# Altium integrated library con-thomas-betts.IntLib: 49 symbols (part 2 of 2)

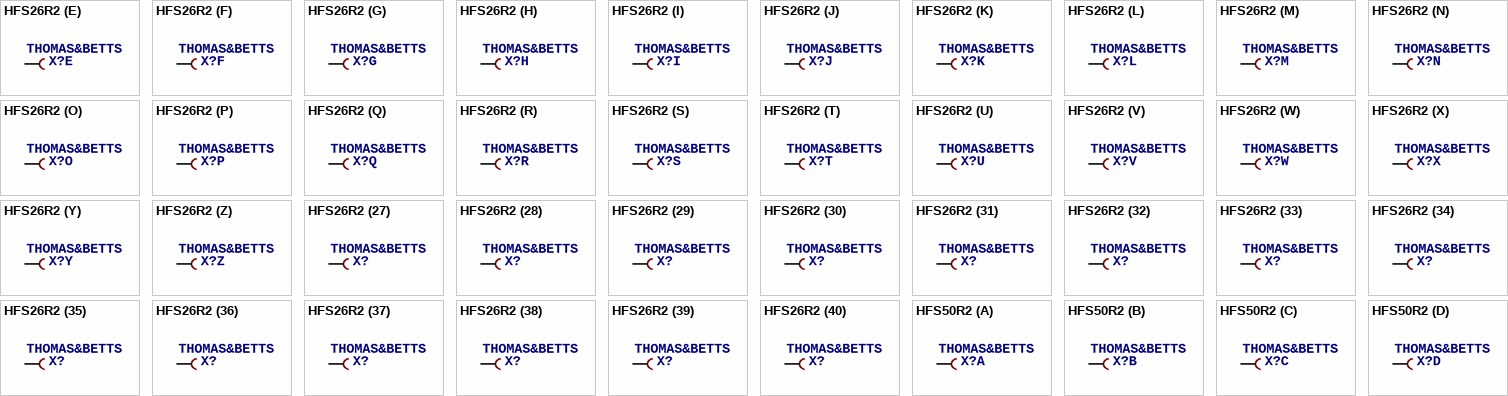
[diagram p23: symbols HFS26R2 to HFS50R2]

## HFS26R2
designator X?, comment THOMAS&BETTS
OC_FARNELL: unknown; OC_NEWARK: unknown
footprint HFS26R
part A pins: 1-1 F
part B pins: 1-2 F
part C pins: 1-3 F
part D pins: 1-4 F
part E pins: 1-5 F
part F pins: 1-6 F
part G pins: 1-7 F
part H pins: 1-8 F
part I pins: 1-9 F
part J pins: 1-10 F
part K pins: 1-11 F
part L pins: 1-12 F
part M pins: 1-13 F
part N pins: 1-14 F
part O pins: 1-15 F
part P pins: 1-16 F
part Q pins: 1-17 F
part R pins: 1-18 F
part S pins: 1-19 F
part T pins: 1-20 F
part U pins: 1-21 F
part V pins: 1-22 F
part W pins: 1-23 F
part X pins: 1-24 F
part Y pins: 1-25 F
part Z pins: 1-26 F
part 27 pins: 2-1 F
part 28 pins: 2-2 F
part 29 pins: 2-3 F
part 30 pins: 2-4 F
part 31 pins: 2-5 F
part 32 pins: 2-6 F
part 33 pins: 2-7 F
part 34 pins: 2-8 F
part 35 pins: 2-9 F
part 36 pins: 2-10 F
part 37 pins: 2-11 F
part 38 pins: 2-12 F
part 39 pins: 2-13 F
part 40 pins: 2-14 F
part 41 pins: 2-15 F
part 42 pins: 2-16 F
part 43 pins: 2-17 F
part 44 pins: 2-18 F
part 45 pins: 2-19 F
part 46 pins: 2-20 F
part 47 pins: 2-21 F
part 48 pins: 2-22 F
part 49 pins: 2-23 F
part 50 pins: 2-24 F
part 51 pins: 2-25 F
part 52 pins: 2-26 F

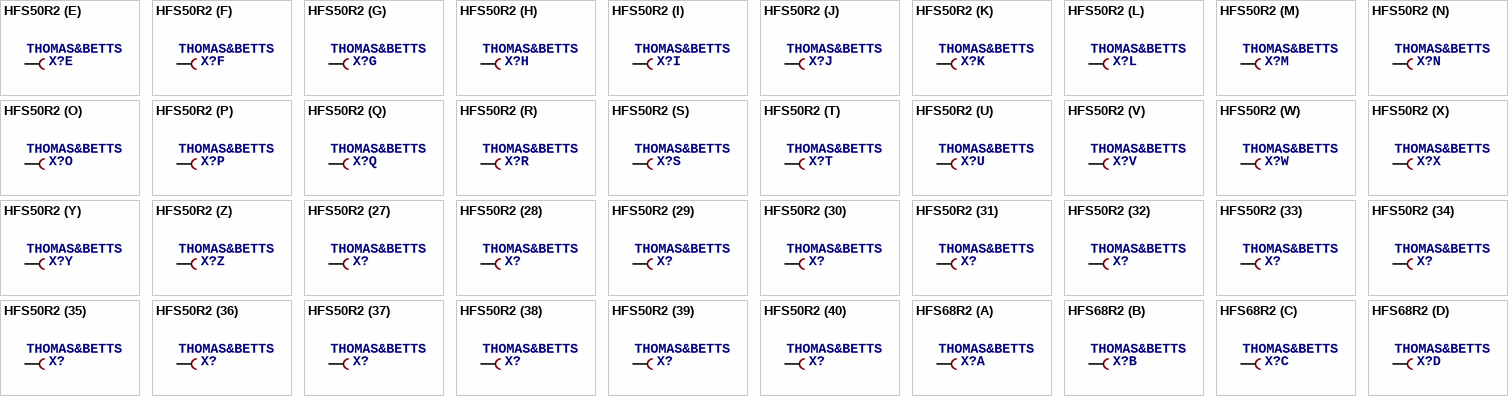
[diagram p24: symbols HFS50R2 to HFS68R2]

## HFS50R2
designator X?, comment THOMAS&BETTS
OC_FARNELL: unknown; OC_NEWARK: unknown
footprint HFS50R
part A pins: 1-1 F
part B pins: 1-2 F
part C pins: 1-3 F
part D pins: 1-4 F
part E pins: 1-5 F
part F pins: 1-6 F
part G pins: 1-7 F
part H pins: 1-8 F
part I pins: 1-9 F
part J pins: 1-10 F
part K pins: 1-11 F
part L pins: 1-12 F
part M pins: 1-13 F
part N pins: 1-14 F
part O pins: 1-15 F
part P pins: 1-16 F
part Q pins: 1-17 F
part R pins: 1-18 F
part S pins: 1-19 F
part T pins: 1-20 F
part U pins: 1-21 F
part V pins: 1-22 F
part W pins: 1-23 F
part X pins: 1-24 F
part Y pins: 1-25 F
part Z pins: 1-26 F
part 27 pins: 1-27 F
part 28 pins: 1-28 F
part 29 pins: 1-29 F
part 30 pins: 1-30 F
part 31 pins: 1-31 F
part 32 pins: 1-32 F
part 33 pins: 1-33 F
part 34 pins: 1-34 F
part 35 pins: 1-35 F
part 36 pins: 1-36 F
part 37 pins: 1-37 F
part 38 pins: 1-38 F
part 39 pins: 1-39 F
part 40 pins: 1-40 F
part 41 pins: 1-41 F
part 42 pins: 1-42 F
part 43 pins: 1-43 F
part 44 pins: 1-44 F
part 45 pins: 1-45 F
part 46 pins: 1-46 F
part 47 pins: 1-47 F
part 48 pins: 1-48 F
part 49 pins: 1-49 F
part 50 pins: 1-50 F
part 51 pins: 2-1 F
part 52 pins: 2-2 F
part 53 pins: 2-3 F
part 54 pins: 2-4 F
part 55 pins: 2-5 F
part 56 pins: 2-6 F
part 57 pins: 2-7 F
part 58 pins: 2-8 F
part 59 pins: 2-9 F
part 60 pins: 2-10 F
part 61 pins: 2-11 F
part 62 pins: 2-12 F
part 63 pins: 2-13 F
part 64 pins: 2-14 F
part 65 pins: 2-15 F
part 66 pins: 2-16 F
part 67 pins: 2-17 F
part 68 pins: 2-18 F
part 69 pins: 2-19 F
part 70 pins: 2-20 F
part 71 pins: 2-21 F
part 72 pins: 2-22 F
part 73 pins: 2-23 F
part 74 pins: 2-24 F
part 75 pins: 2-25 F
part 76 pins: 2-26 F
part 77 pins: 2-27 F
part 78 pins: 2-28 F
part 79 pins: 2-29 F
part 80 pins: 2-30 F
part 81 pins: 2-31 F
part 82 pins: 2-32 F
part 83 pins: 2-33 F
part 84 pins: 2-34 F
part 85 pins: 2-35 F
part 86 pins: 2-36 F
part 87 pins: 2-37 F
part 88 pins: 2-38 F
part 89 pins: 2-39 F
part 90 pins: 2-40 F
part 91 pins: 2-41 F
part 92 pins: 2-42 F
part 93 pins: 2-43 F
part 94 pins: 2-44 F
part 95 pins: 2-45 F
part 96 pins: 2-46 F
part 97 pins: 2-47 F
part 98 pins: 2-48 F
part 99 pins: 2-49 F
part 100 pins: 2-50 F

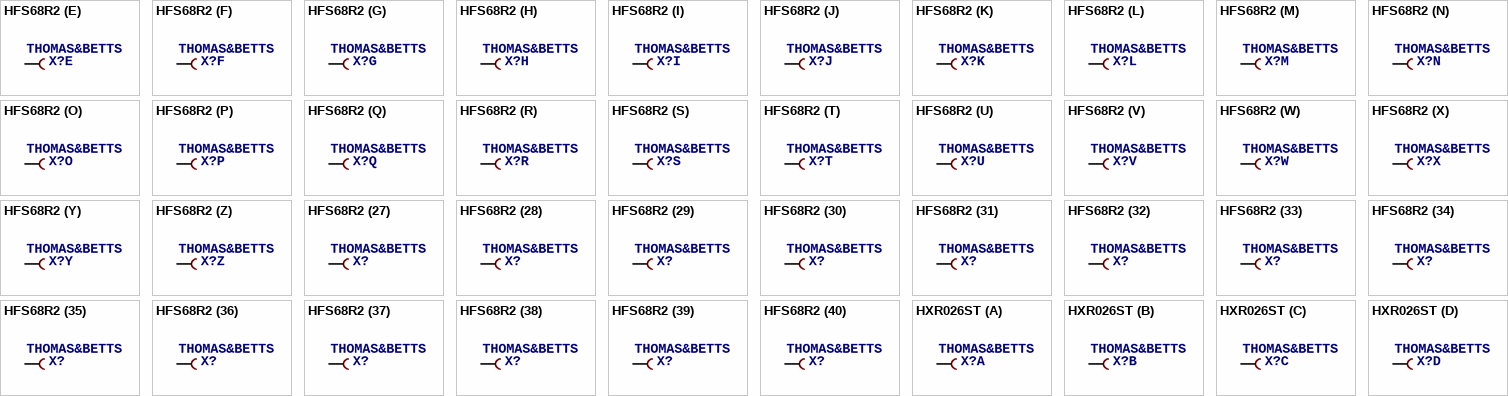
[diagram p25: symbols HFS68R2 to HXR026ST]

## HFS68R2
designator X?, comment THOMAS&BETTS
OC_FARNELL: unknown; OC_NEWARK: unknown
footprint HFS68R
part A pins: 1-1 F
part B pins: 1-2 F
part C pins: 1-3 F
part D pins: 1-4 F
part E pins: 1-5 F
part F pins: 1-6 F
part G pins: 1-7 F
part H pins: 1-8 F
part I pins: 1-9 F
part J pins: 1-10 F
part K pins: 1-11 F
part L pins: 1-12 F
part M pins: 1-13 F
part N pins: 1-14 F
part O pins: 1-15 F
part P pins: 1-16 F
part Q pins: 1-17 F
part R pins: 1-18 F
part S pins: 1-19 F
part T pins: 1-20 F
part U pins: 1-21 F
part V pins: 1-22 F
part W pins: 1-23 F
part X pins: 1-24 F
part Y pins: 1-25 F
part Z pins: 1-26 F
part 27 pins: 1-27 F
part 28 pins: 1-28 F
part 29 pins: 1-29 F
part 30 pins: 1-30 F
part 31 pins: 1-31 F
part 32 pins: 1-32 F
part 33 pins: 1-33 F
part 34 pins: 1-34 F
part 35 pins: 1-35 F
part 36 pins: 1-36 F
part 37 pins: 1-37 F
part 38 pins: 1-38 F
part 39 pins: 1-39 F
part 40 pins: 1-40 F
part 41 pins: 1-41 F
part 42 pins: 1-42 F
part 43 pins: 1-43 F
part 44 pins: 1-44 F
part 45 pins: 1-45 F
part 46 pins: 1-46 F
part 47 pins: 1-47 F
part 48 pins: 1-48 F
part 49 pins: 1-49 F
part 50 pins: 1-50 F
part 51 pins: 1-51 F
part 52 pins: 1-52 F
part 53 pins: 1-53 F
part 54 pins: 1-54 F
part 55 pins: 1-55 F
part 56 pins: 1-56 F
part 57 pins: 1-57 F
part 58 pins: 1-58 F
part 59 pins: 1-59 F
part 60 pins: 1-60 F
part 61 pins: 1-61 F
part 62 pins: 1-62 F
part 63 pins: 1-63 F
part 64 pins: 1-64 F
part 65 pins: 1-65 F
part 66 pins: 1-66 F
part 67 pins: 1-67 F
part 68 pins: 1-68 F
part 69 pins: 2-1 F
part 70 pins: 2-2 F
part 71 pins: 2-3 F
part 72 pins: 2-4 F
part 73 pins: 2-5 F
part 74 pins: 2-6 F
part 75 pins: 2-7 F
part 76 pins: 2-8 F
part 77 pins: 2-9 F
part 78 pins: 2-10 F
part 79 pins: 2-11 F
part 80 pins: 2-12 F
part 81 pins: 2-13 F
part 82 pins: 2-14 F
part 83 pins: 2-15 F
part 84 pins: 2-16 F
part 85 pins: 2-17 F
part 86 pins: 2-18 F
part 87 pins: 2-19 F
part 88 pins: 2-20 F
part 89 pins: 2-21 F
part 90 pins: 2-22 F
part 91 pins: 2-23 F
part 92 pins: 2-24 F
part 93 pins: 2-25 F
part 94 pins: 2-26 F
part 95 pins: 2-27 F
part 96 pins: 2-28 F
part 97 pins: 2-29 F
part 98 pins: 2-30 F
part 99 pins: 2-31 F
part 100 pins: 2-32 F
part 101 pins: 2-33 F
part 102 pins: 2-34 F
part 103 pins: 2-35 F
part 104 pins: 2-36 F
part 105 pins: 2-37 F
part 106 pins: 2-38 F
part 107 pins: 2-39 F
part 108 pins: 2-40 F
part 109 pins: 2-41 F
part 110 pins: 2-42 F
part 111 pins: 2-43 F
part 112 pins: 2-44 F
part 113 pins: 2-45 F
part 114 pins: 2-46 F
part 115 pins: 2-47 F
part 116 pins: 2-48 F
part 117 pins: 2-49 F
part 118 pins: 2-50 F
part 119 pins: 2-51 F
part 120 pins: 2-52 F
part 121 pins: 2-53 F
part 122 pins: 2-54 F
part 123 pins: 2-55 F
part 124 pins: 2-56 F
part 125 pins: 2-57 F
part 126 pins: 2-58 F
part 127 pins: 2-59 F
part 128 pins: 2-60 F
part 129 pins: 2-61 F
part 130 pins: 2-62 F
part 131 pins: 2-63 F
part 132 pins: 2-64 F
part 133 pins: 2-65 F
part 134 pins: 2-66 F
part 135 pins: 2-67 F
part 136 pins: 2-68 F

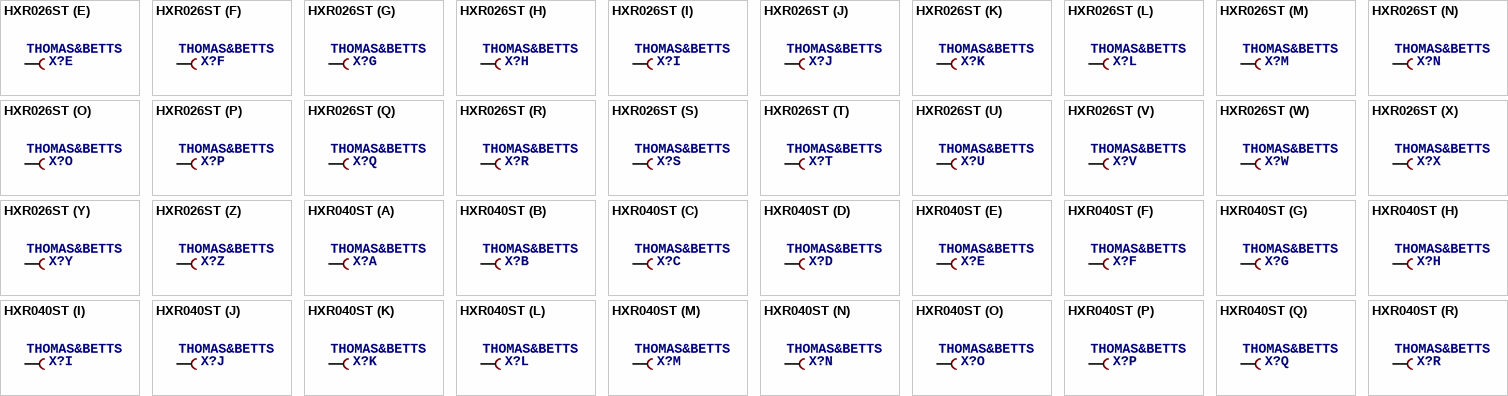
[diagram p26: symbols HXR026ST to HXR040ST]

## HXR026ST
designator X?, comment THOMAS&BETTS
OC_FARNELL: unknown; OC_NEWARK: unknown
footprint HXR026ST
part A pins: 1 F
part B pins: 2 F
part C pins: 3 F
part D pins: 4 F
part E pins: 5 F
part F pins: 6 F
part G pins: 7 F
part H pins: 8 F
part I pins: 9 F
part J pins: 10 F
part K pins: 11 F
part L pins: 12 F
part M pins: 13 F
part N pins: 14 F
part O pins: 15 F
part P pins: 16 F
part Q pins: 17 F
part R pins: 18 F
part S pins: 19 F
part T pins: 20 F
part U pins: 21 F
part V pins: 22 F
part W pins: 23 F
part X pins: 24 F
part Y pins: 25 F
part Z pins: 26 F

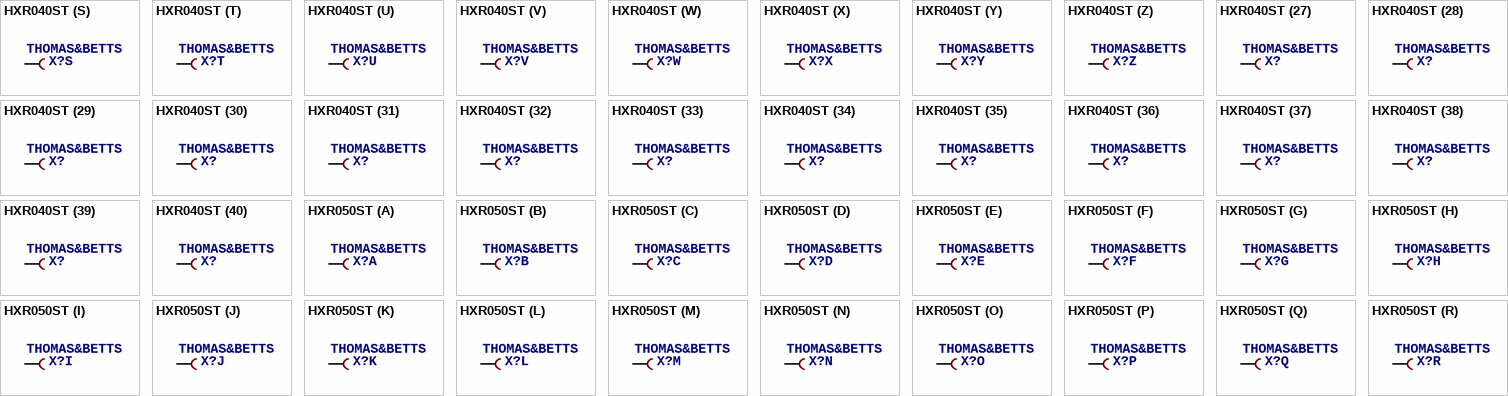
[diagram p27: symbols HXR040ST to HXR050ST]

## HXR040ST
designator X?, comment THOMAS&BETTS
OC_FARNELL: unknown; OC_NEWARK: unknown
footprint HXR040ST
part A pins: 1 F
part B pins: 2 F
part C pins: 3 F
part D pins: 4 F
part E pins: 5 F
part F pins: 6 F
part G pins: 7 F
part H pins: 8 F
part I pins: 9 F
part J pins: 10 F
part K pins: 11 F
part L pins: 12 F
part M pins: 13 F
part N pins: 14 F
part O pins: 15 F
part P pins: 16 F
part Q pins: 17 F
part R pins: 18 F
part S pins: 19 F
part T pins: 20 F
part U pins: 21 F
part V pins: 22 F
part W pins: 23 F
part X pins: 24 F
part Y pins: 25 F
part Z pins: 26 F
part 27 pins: 27 F
part 28 pins: 28 F
part 29 pins: 29 F
part 30 pins: 30 F
part 31 pins: 31 F
part 32 pins: 32 F
part 33 pins: 33 F
part 34 pins: 34 F
part 35 pins: 35 F
part 36 pins: 36 F
part 37 pins: 37 F
part 38 pins: 38 F
part 39 pins: 39 F
part 40 pins: 40 F

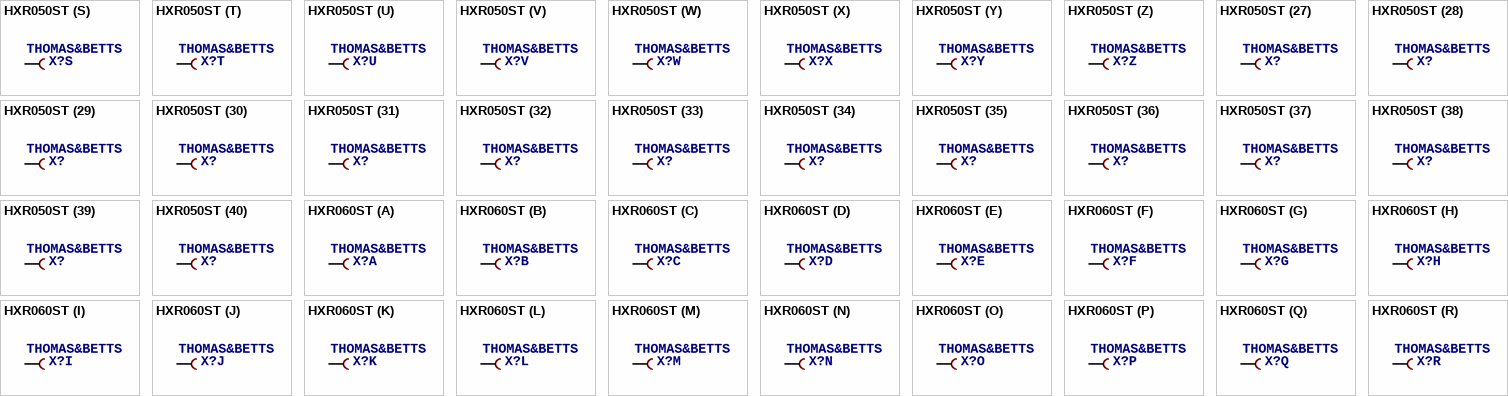
[diagram p28: symbols HXR050ST to HXR060ST]

## HXR050ST
designator X?, comment THOMAS&BETTS
OC_FARNELL: unknown; OC_NEWARK: unknown
footprint HXR050ST
part A pins: 1 F
part B pins: 2 F
part C pins: 3 F
part D pins: 4 F
part E pins: 5 F
part F pins: 6 F
part G pins: 7 F
part H pins: 8 F
part I pins: 9 F
part J pins: 10 F
part K pins: 11 F
part L pins: 12 F
part M pins: 13 F
part N pins: 14 F
part O pins: 15 F
part P pins: 16 F
part Q pins: 17 F
part R pins: 18 F
part S pins: 19 F
part T pins: 20 F
part U pins: 21 F
part V pins: 22 F
part W pins: 23 F
part X pins: 24 F
part Y pins: 25 F
part Z pins: 26 F
part 27 pins: 27 F
part 28 pins: 28 F
part 29 pins: 29 F
part 30 pins: 30 F
part 31 pins: 31 F
part 32 pins: 32 F
part 33 pins: 33 F
part 34 pins: 34 F
part 35 pins: 35 F
part 36 pins: 36 F
part 37 pins: 37 F
part 38 pins: 38 F
part 39 pins: 39 F
part 40 pins: 40 F
part 41 pins: 41 F
part 42 pins: 42 F
part 43 pins: 43 F
part 44 pins: 44 F
part 45 pins: 45 F
part 46 pins: 46 F
part 47 pins: 47 F
part 48 pins: 48 F
part 49 pins: 49 F
part 50 pins: 50 F

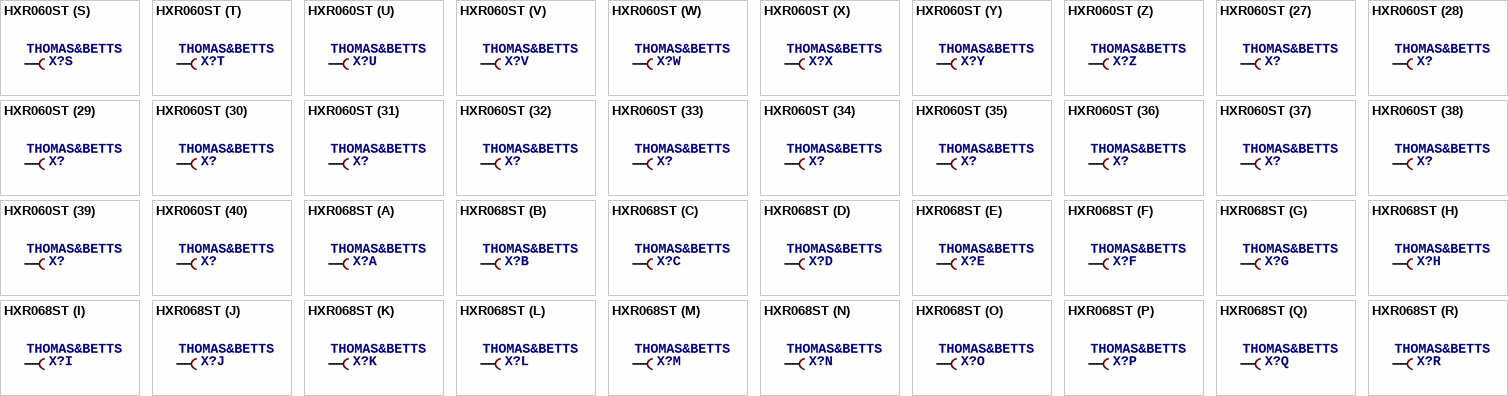
[diagram p29: symbols HXR060ST to HXR068ST]

## HXR060ST
designator X?, comment THOMAS&BETTS
OC_FARNELL: unknown; OC_NEWARK: unknown
footprint HXR060ST
part A pins: 1 F
part B pins: 2 F
part C pins: 3 F
part D pins: 4 F
part E pins: 5 F
part F pins: 6 F
part G pins: 7 F
part H pins: 8 F
part I pins: 9 F
part J pins: 10 F
part K pins: 11 F
part L pins: 12 F
part M pins: 13 F
part N pins: 14 F
part O pins: 15 F
part P pins: 16 F
part Q pins: 17 F
part R pins: 18 F
part S pins: 19 F
part T pins: 20 F
part U pins: 21 F
part V pins: 22 F
part W pins: 23 F
part X pins: 24 F
part Y pins: 25 F
part Z pins: 26 F
part 27 pins: 27 F
part 28 pins: 28 F
part 29 pins: 29 F
part 30 pins: 30 F
part 31 pins: 31 F
part 32 pins: 32 F
part 33 pins: 33 F
part 34 pins: 34 F
part 35 pins: 35 F
part 36 pins: 36 F
part 37 pins: 37 F
part 38 pins: 38 F
part 39 pins: 39 F
part 40 pins: 40 F
part 41 pins: 41 F
part 42 pins: 42 F
part 43 pins: 43 F
part 44 pins: 44 F
part 45 pins: 45 F
part 46 pins: 46 F
part 47 pins: 47 F
part 48 pins: 48 F
part 49 pins: 49 F
part 50 pins: 50 F
part 51 pins: 51 F
part 52 pins: 52 F
part 53 pins: 53 F
part 54 pins: 54 F
part 55 pins: 55 F
part 56 pins: 56 F
part 57 pins: 57 F
part 58 pins: 58 F
part 59 pins: 59 F
part 60 pins: 60 F

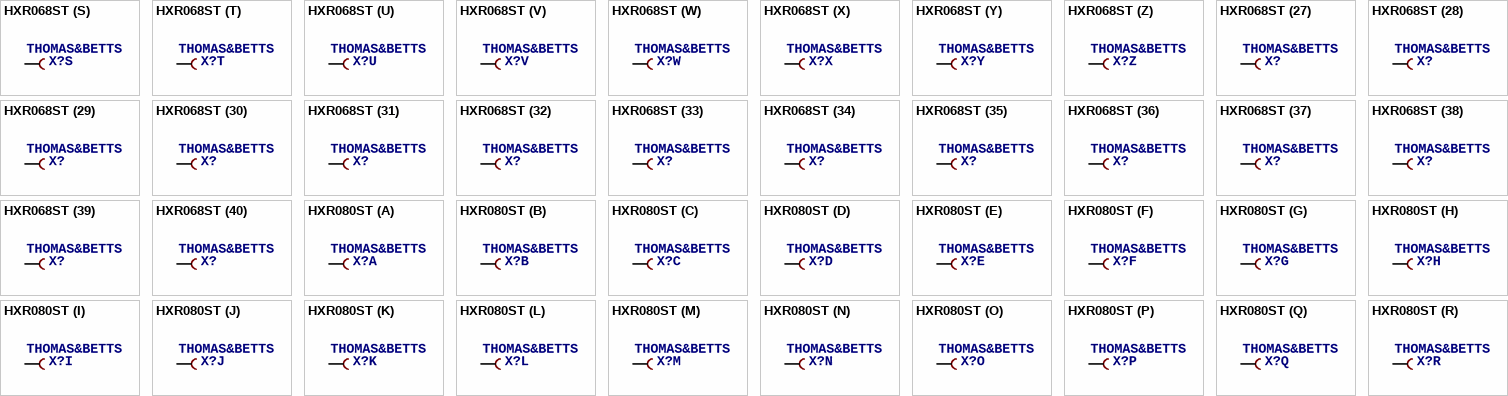
[diagram p30: symbols HXR068ST to HXR080ST]

## HXR068ST
designator X?, comment THOMAS&BETTS
OC_FARNELL: unknown; OC_NEWARK: unknown
footprint HXR068ST
part A pins: 1 F
part B pins: 2 F
part C pins: 3 F
part D pins: 4 F
part E pins: 5 F
part F pins: 6 F
part G pins: 7 F
part H pins: 8 F
part I pins: 9 F
part J pins: 10 F
part K pins: 11 F
part L pins: 12 F
part M pins: 13 F
part N pins: 14 F
part O pins: 15 F
part P pins: 16 F
part Q pins: 17 F
part R pins: 18 F
part S pins: 19 F
part T pins: 20 F
part U pins: 21 F
part V pins: 22 F
part W pins: 23 F
part X pins: 24 F
part Y pins: 25 F
part Z pins: 26 F
part 27 pins: 27 F
part 28 pins: 28 F
part 29 pins: 29 F
part 30 pins: 30 F
part 31 pins: 31 F
part 32 pins: 32 F
part 33 pins: 33 F
part 34 pins: 34 F
part 35 pins: 35 F
part 36 pins: 36 F
part 37 pins: 37 F
part 38 pins: 38 F
part 39 pins: 39 F
part 40 pins: 40 F
part 41 pins: 41 F
part 42 pins: 42 F
part 43 pins: 43 F
part 44 pins: 44 F
part 45 pins: 45 F
part 46 pins: 46 F
part 47 pins: 47 F
part 48 pins: 48 F
part 49 pins: 49 F
part 50 pins: 50 F
part 51 pins: 51 F
part 52 pins: 52 F
part 53 pins: 53 F
part 54 pins: 54 F
part 55 pins: 55 F
part 56 pins: 56 F
part 57 pins: 57 F
part 58 pins: 58 F
part 59 pins: 59 F
part 60 pins: 60 F
part 61 pins: 61 F
part 62 pins: 62 F
part 63 pins: 63 F
part 64 pins: 64 F
part 65 pins: 65 F
part 66 pins: 66 F
part 67 pins: 67 F
part 68 pins: 68 F

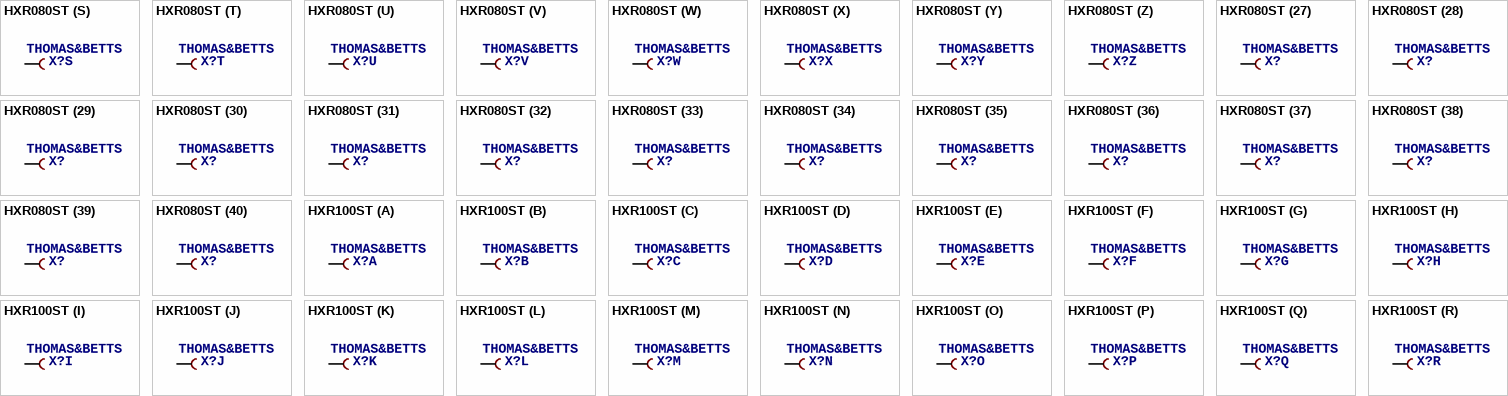
[diagram p31: symbols HXR080ST to HXR100ST]

## HXR080ST
designator X?, comment THOMAS&BETTS
OC_FARNELL: unknown; OC_NEWARK: unknown
footprint HXR080ST
part A pins: 1 F
part B pins: 2 F
part C pins: 3 F
part D pins: 4 F
part E pins: 5 F
part F pins: 6 F
part G pins: 7 F
part H pins: 8 F
part I pins: 9 F
part J pins: 10 F
part K pins: 11 F
part L pins: 12 F
part M pins: 13 F
part N pins: 14 F
part O pins: 15 F
part P pins: 16 F
part Q pins: 17 F
part R pins: 18 F
part S pins: 19 F
part T pins: 20 F
part U pins: 21 F
part V pins: 22 F
part W pins: 23 F
part X pins: 24 F
part Y pins: 25 F
part Z pins: 26 F
part 27 pins: 27 F
part 28 pins: 28 F
part 29 pins: 29 F
part 30 pins: 30 F
part 31 pins: 31 F
part 32 pins: 32 F
part 33 pins: 33 F
part 34 pins: 34 F
part 35 pins: 35 F
part 36 pins: 36 F
part 37 pins: 37 F
part 38 pins: 38 F
part 39 pins: 39 F
part 40 pins: 40 F
part 41 pins: 41 F
part 42 pins: 42 F
part 43 pins: 43 F
part 44 pins: 44 F
part 45 pins: 45 F
part 46 pins: 46 F
part 47 pins: 47 F
part 48 pins: 48 F
part 49 pins: 49 F
part 50 pins: 50 F
part 51 pins: 51 F
part 52 pins: 52 F
part 53 pins: 53 F
part 54 pins: 54 F
part 55 pins: 55 F
part 56 pins: 56 F
part 57 pins: 57 F
part 58 pins: 58 F
part 59 pins: 59 F
part 60 pins: 60 F
part 61 pins: 61 F
part 62 pins: 62 F
part 63 pins: 63 F
part 64 pins: 64 F
part 65 pins: 65 F
part 66 pins: 66 F
part 67 pins: 67 F
part 68 pins: 68 F
part 69 pins: 69 F
part 70 pins: 70 F
part 71 pins: 71 F
part 72 pins: 72 F
part 73 pins: 73 F
part 74 pins: 74 F
part 75 pins: 75 F
part 76 pins: 76 F
part 77 pins: 77 F
part 78 pins: 78 F
part 79 pins: 79 F
part 80 pins: 80 F

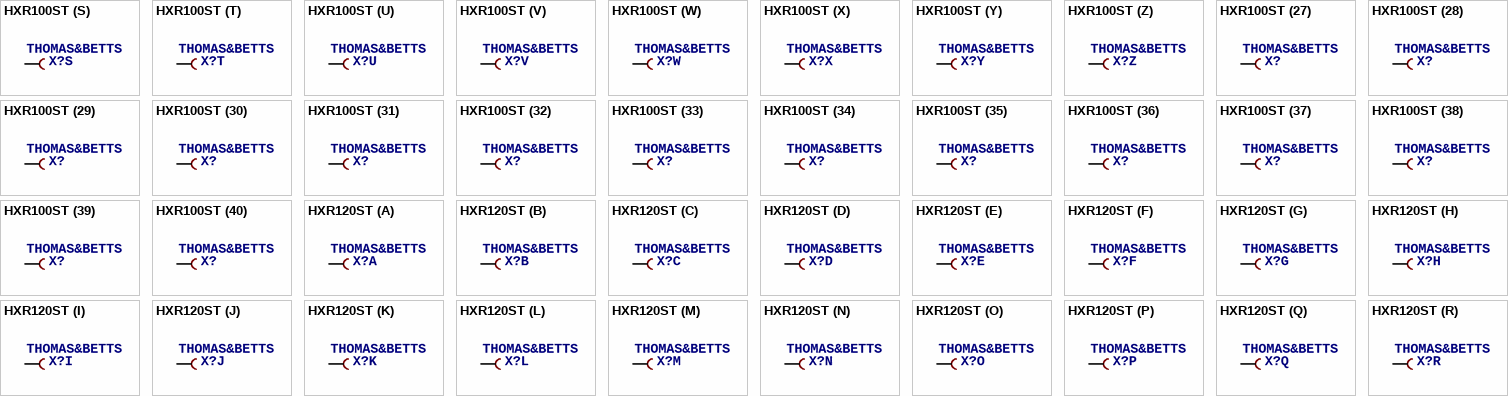
[diagram p32: symbols HXR100ST to HXR120ST]

## HXR100ST
designator X?, comment THOMAS&BETTS
OC_FARNELL: unknown; OC_NEWARK: unknown
footprint HXR100ST
part A pins: 1 F
part B pins: 2 F
part C pins: 3 F
part D pins: 4 F
part E pins: 5 F
part F pins: 6 F
part G pins: 7 F
part H pins: 8 F
part I pins: 9 F
part J pins: 10 F
part K pins: 11 F
part L pins: 12 F
part M pins: 13 F
part N pins: 14 F
part O pins: 15 F
part P pins: 16 F
part Q pins: 17 F
part R pins: 18 F
part S pins: 19 F
part T pins: 20 F
part U pins: 21 F
part V pins: 22 F
part W pins: 23 F
part X pins: 24 F
part Y pins: 25 F
part Z pins: 26 F
part 27 pins: 27 F
part 28 pins: 28 F
part 29 pins: 29 F
part 30 pins: 30 F
part 31 pins: 31 F
part 32 pins: 32 F
part 33 pins: 33 F
part 34 pins: 34 F
part 35 pins: 35 F
part 36 pins: 36 F
part 37 pins: 37 F
part 38 pins: 38 F
part 39 pins: 39 F
part 40 pins: 40 F
part 41 pins: 41 F
part 42 pins: 42 F
part 43 pins: 43 F
part 44 pins: 44 F
part 45 pins: 45 F
part 46 pins: 46 F
part 47 pins: 47 F
part 48 pins: 48 F
part 49 pins: 49 F
part 50 pins: 50 F
part 51 pins: 51 F
part 52 pins: 52 F
part 53 pins: 53 F
part 54 pins: 54 F
part 55 pins: 55 F
part 56 pins: 56 F
part 57 pins: 57 F
part 58 pins: 58 F
part 59 pins: 59 F
part 60 pins: 60 F
part 61 pins: 61 F
part 62 pins: 62 F
part 63 pins: 63 F
part 64 pins: 64 F
part 65 pins: 65 F
part 66 pins: 66 F
part 67 pins: 67 F
part 68 pins: 68 F
part 69 pins: 69 F
part 70 pins: 70 F
part 71 pins: 71 F
part 72 pins: 72 F
part 73 pins: 73 F
part 74 pins: 74 F
part 75 pins: 75 F
part 76 pins: 76 F
part 77 pins: 77 F
part 78 pins: 78 F
part 79 pins: 79 F
part 80 pins: 80 F
part 81 pins: 81 F
part 82 pins: 82 F
part 83 pins: 83 F
part 84 pins: 84 F
part 85 pins: 85 F
part 86 pins: 86 F
part 87 pins: 87 F
part 88 pins: 88 F
part 89 pins: 89 F
part 90 pins: 90 F
part 91 pins: 91 F
part 92 pins: 92 F
part 93 pins: 93 F
part 94 pins: 94 F
part 95 pins: 95 F
part 96 pins: 96 F
part 97 pins: 97 F
part 98 pins: 98 F
part 99 pins: 99 F
part 100 pins: 100 F

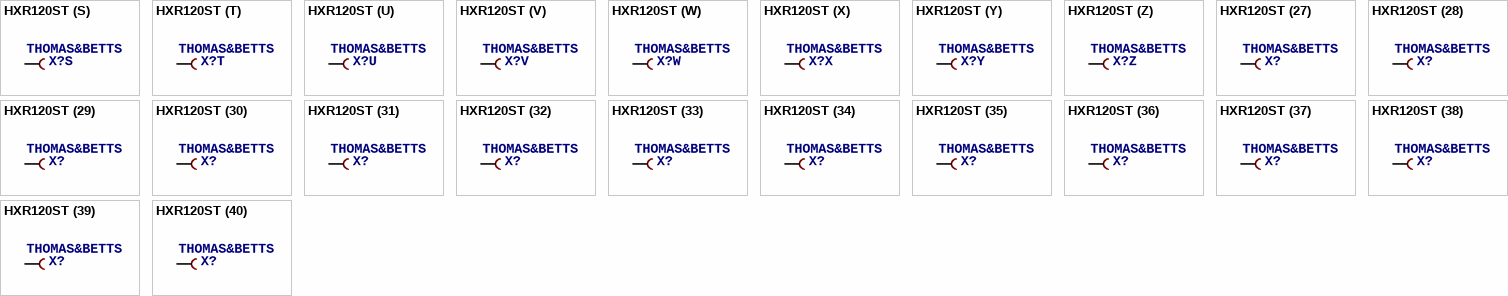
[diagram p33: symbol HXR120ST]

## HXR120ST
designator X?, comment THOMAS&BETTS
OC_FARNELL: unknown; OC_NEWARK: unknown
footprint HXR120ST
part A pins: 1 F
part B pins: 2 F
part C pins: 3 F
part D pins: 4 F
part E pins: 5 F
part F pins: 6 F
part G pins: 7 F
part H pins: 8 F
part I pins: 9 F
part J pins: 10 F
part K pins: 11 F
part L pins: 12 F
part M pins: 13 F
part N pins: 14 F
part O pins: 15 F
part P pins: 16 F
part Q pins: 17 F
part R pins: 18 F
part S pins: 19 F
part T pins: 20 F
part U pins: 21 F
part V pins: 22 F
part W pins: 23 F
part X pins: 24 F
part Y pins: 25 F
part Z pins: 26 F
part 27 pins: 27 F
part 28 pins: 28 F
part 29 pins: 29 F
part 30 pins: 30 F
part 31 pins: 31 F
part 32 pins: 32 F
part 33 pins: 33 F
part 34 pins: 34 F
part 35 pins: 35 F
part 36 pins: 36 F
part 37 pins: 37 F
part 38 pins: 38 F
part 39 pins: 39 F
part 40 pins: 40 F
part 41 pins: 41 F
part 42 pins: 42 F
part 43 pins: 43 F
part 44 pins: 44 F
part 45 pins: 45 F
part 46 pins: 46 F
part 47 pins: 47 F
part 48 pins: 48 F
part 49 pins: 49 F
part 50 pins: 50 F
part 51 pins: 51 F
part 52 pins: 52 F
part 53 pins: 53 F
part 54 pins: 54 F
part 55 pins: 55 F
part 56 pins: 56 F
part 57 pins: 57 F
part 58 pins: 58 F
part 59 pins: 59 F
part 60 pins: 60 F
part 61 pins: 61 F
part 62 pins: 62 F
part 63 pins: 63 F
part 64 pins: 64 F
part 65 pins: 65 F
part 66 pins: 66 F
part 67 pins: 67 F
part 68 pins: 68 F
part 69 pins: 69 F
part 70 pins: 70 F
part 71 pins: 71 F
part 72 pins: 72 F
part 73 pins: 73 F
part 74 pins: 74 F
part 75 pins: 75 F
part 76 pins: 76 F
part 77 pins: 77 F
part 78 pins: 78 F
part 79 pins: 79 F
part 80 pins: 80 F
part 81 pins: 81 F
part 82 pins: 82 F
part 83 pins: 83 F
part 84 pins: 84 F
part 85 pins: 85 F
part 86 pins: 86 F
part 87 pins: 87 F
part 88 pins: 88 F
part 89 pins: 89 F
part 90 pins: 90 F
part 91 pins: 91 F
part 92 pins: 92 F
part 93 pins: 93 F
part 94 pins: 94 F
part 95 pins: 95 F
part 96 pins: 96 F
part 97 pins: 97 F
part 98 pins: 98 F
part 99 pins: 99 F
part 100 pins: 100 F
part 101 pins: 101 F
part 102 pins: 102 F
part 103 pins: 103 F
part 104 pins: 104 F
part 105 pins: 105 F
part 106 pins: 106 F
part 107 pins: 107 F
part 108 pins: 108 F
part 109 pins: 109 F
part 110 pins: 110 F
part 111 pins: 111 F
part 112 pins: 112 F
part 113 pins: 113 F
part 114 pins: 114 F
part 115 pins: 115 F
part 116 pins: 116 F
part 117 pins: 117 F
part 118 pins: 118 F
part 119 pins: 119 F
part 120 pins: 120 F